# Altium schematic symbol library Schlib_Silicon_Labs.SchLib: 5 symbols
Pins are listed as number, name and electrical type; pins without a type are passive.

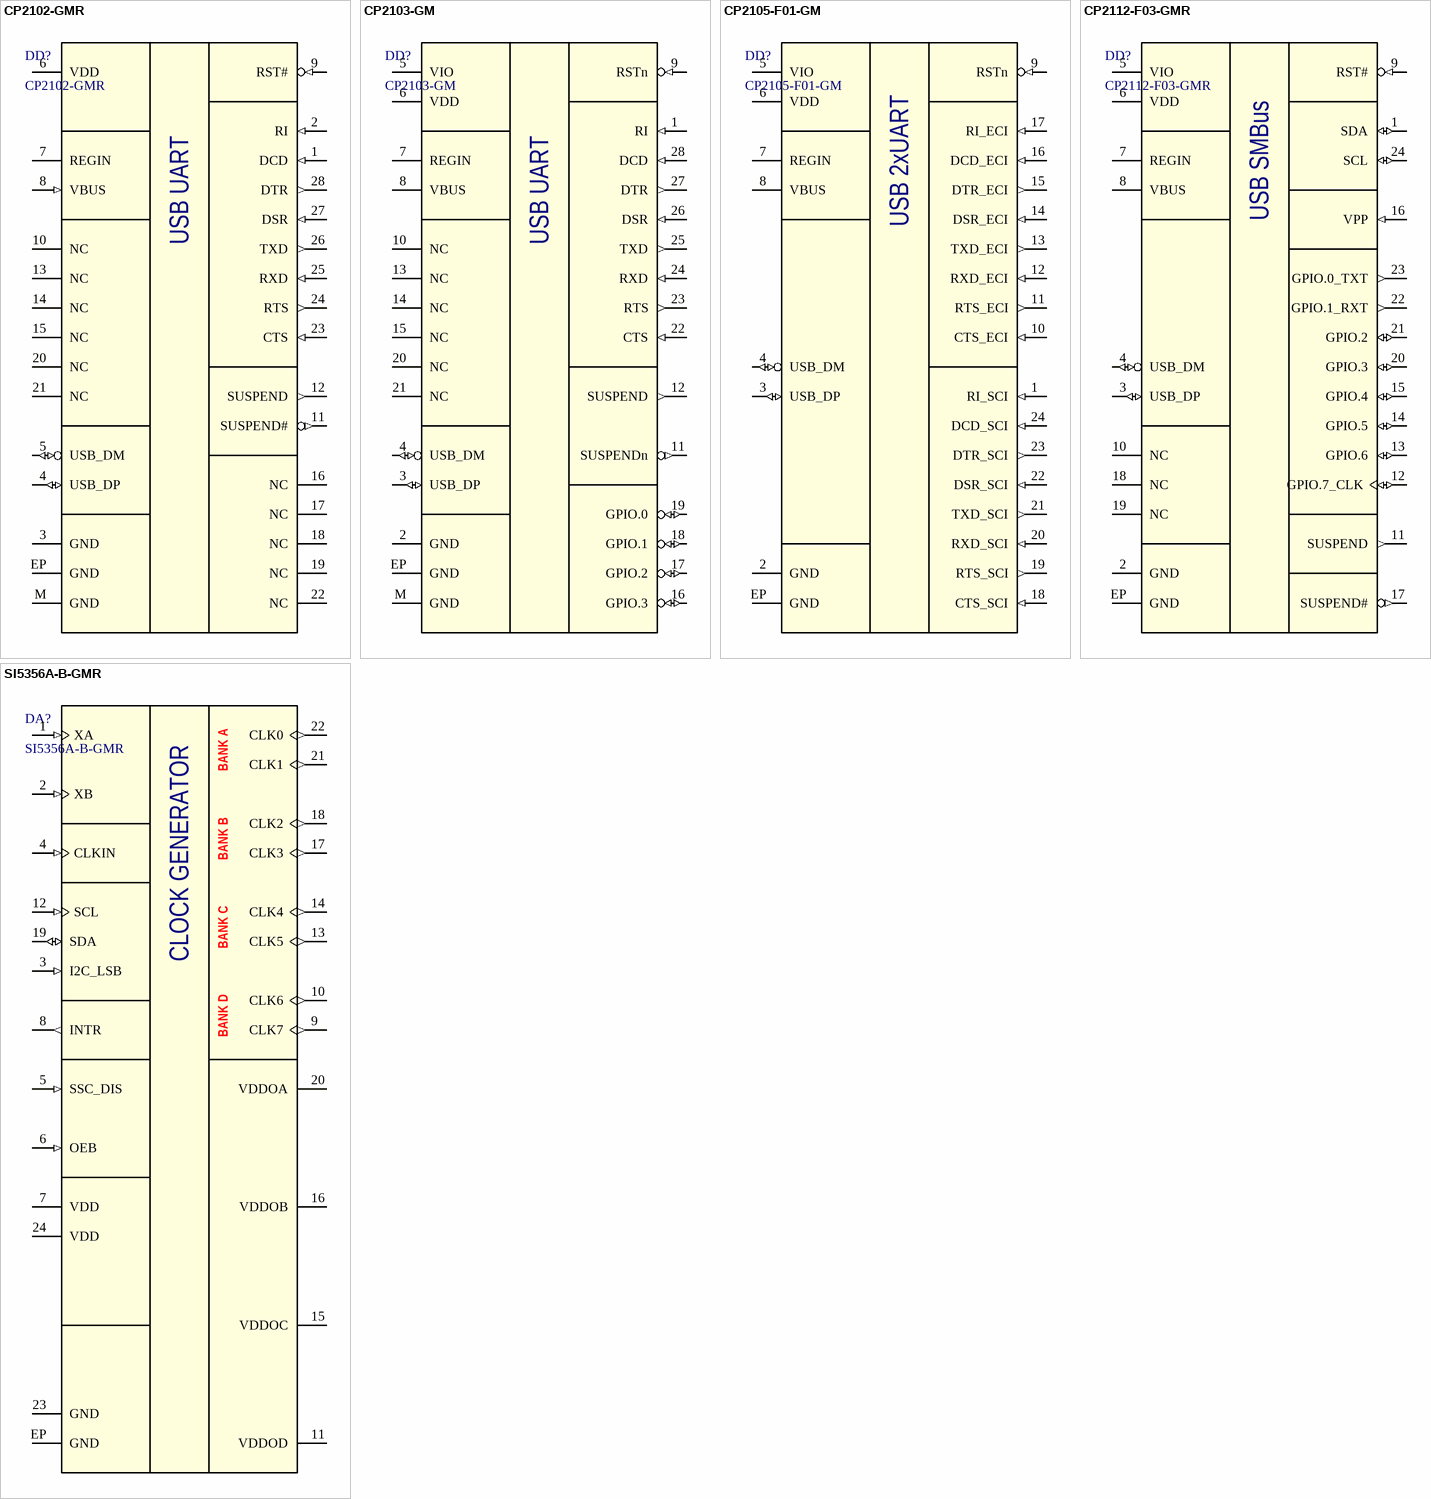
[diagram p0: symbols CP2102-GMR to SI5356A-B-GMR]

## CP2102-GMR
designator DD?
USB to UART converter; Manufacturer: Silicon Labs; Package: QFN28; Part Number: CP2102-GMR
footprint QFN28(LC) (QFN-28)
pins: 1 DCD (in), 2 RI (in), 3 GND (power), 4 USB_DP (io), 5 USB_DM (io), 6 VDD (power), 7 REGIN (power), 8 VBUS (in), 9 RST# (in), 10 NC (hiz), 11 SUSPEND# (out), 12 SUSPEND (out), 13 NC (hiz), 14 NC (hiz), 15 NC (hiz), 16 NC (hiz), 17 NC (hiz), 18 NC (hiz), 19 NC (hiz), 20 NC (hiz), 21 NC (hiz), 22 NC (hiz), 23 CTS (in), 24 RTS (out), 25 RXD (in), 26 TXD (out), 27 DSR (in), 28 DTR (out), EP GND (power), M GND (power)
text: USB UART

## CP2103-GM
designator DD?
USB to UART converter; Manufacturer: Silicon Labs; Package: QFN28; Part Number: CP2103-GM
footprint QFN28(LC) (QFN-28)
pins: 1 RI (in), 2 GND (power), 3 USB_DP (io), 4 USB_DM (io), 5 VIO (power), 6 VDD (power), 7 REGIN (power), 8 VBUS (power), 9 RSTn (in), 10 NC, 11 SUSPENDn (out), 12 SUSPEND (out), 13 NC, 14 NC, 15 NC, 16 GPIO.3 (io), 17 GPIO.2 (io), 18 GPIO.1 (io), 19 GPIO.0 (io), 20 NC, 21 NC, 22 CTS (in), 23 RTS (out), 24 RXD (in), 25 TXD (out), 26 DSR (in), 27 DTR (out), 28 DCD (in), EP GND (power), M GND (power)
text: USB UART

## CP2105-F01-GM
designator DD?
USB to 2xUART converter; Manufacturer: Silicon Labs; Package: QFN24; Part Number: CP2105-F01-GM
footprint QFN24 (QFN, 24-Leads, Body 4.00x4.00mm, Pitch 0.50mm, Thermal Pad 2.50x2.50mm, IPC Medium Density)
pins: 1 RI_SCI (in), 2 GND (power), 3 USB_DP (io), 4 USB_DM (io), 5 VIO (power), 6 VDD (power), 7 REGIN (power), 8 VBUS (power), 9 RSTn (in), 10 CTS_ECI (in), 11 RTS_ECI (out), 12 RXD_ECI (in), 13 TXD_ECI (out), 14 DSR_ECI (in), 15 DTR_ECI (out), 16 DCD_ECI (in), 17 RI_ECI (in), 18 CTS_SCI (in), 19 RTS_SCI (out), 20 RXD_SCI (in), 21 TXD_SCI (out), 22 DSR_SCI (in), 23 DTR_SCI (out), 24 DCD_SCI (in), EP GND (power)
text: USB 2xUART

## CP2112-F03-GMR
designator DD?
HID USB to SMBus Master Bridge; Manufacturer: Silicon Labs; Package: QFN24; Part Number: CP2112-F03-GMR
footprint QFN24 (QFN, 24-Leads, Body 4.00x4.00mm, Pitch 0.50mm, Thermal Pad 2.50x2.50mm, IPC Medium Density)
pins: 1 SDA (io), 2 GND (power), 3 USB_DP (io), 4 USB_DM (io), 5 VIO (power), 6 VDD (power), 7 REGIN (power), 8 VBUS (power), 9 RST# (in), 10 NC (hiz), 11 SUSPEND (out), 12 GPIO.7_CLK (io), 13 GPIO.6 (io), 14 GPIO.5 (io), 15 GPIO.4 (io), 16 VPP (in), 17 SUSPEND# (out), 18 NC (hiz), 19 NC (hiz), 20 GPIO.3 (io), 21 GPIO.2 (io), 22 GPIO.1_RXT (out), 23 GPIO.0_TXT (out), 24 SCL (io), EP GND (power)
text: USB SMBus

## SI5356A-B-GMR
designator DA?
ANY-OUTPUT QUAD CLOCK GENERATOR/BUFFER; Manufacturer: Silicon Labs; Package: QFN-24; Part Number: SI5356A-B-GMR
footprint QFN24 (QFN, 24-Leads, Body 4.00x4.00mm, Pitch 0.50mm, Thermal Pad 2.50x2.50mm, IPC Medium Density)
pins: 1 XA (in), 2 XB (in), 3 I2C_LSB (in), 4 CLKIN (in), 5 SSC_DIS (in), 6 OEB (in), 7 VDD (power), 8 INTR (out), 9 CLK7 (out), 10 CLK6 (out), 11 VDDOD (power), 12 SCL (in), 13 CLK5 (out), 14 CLK4 (out), 15 VDDOC (power), 16 VDDOB (power), 17 CLK3 (out), 18 CLK2 (out), 19 SDA (io), 20 VDDOA (power), 21 CLK1 (out), 22 CLK0 (out), 23 GND (power), 24 VDD (power), EP GND (power)
text: BANK A; BANK B; CLOCK GENERATOR; BANK C; BANK D